# Altium schematic symbol library Transistor.SchLib: 5 symbols
Pins are listed as number, name and electrical type; pins without a type are passive.

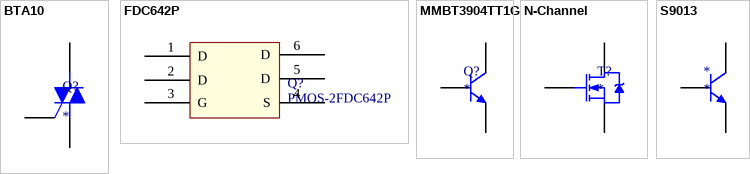
[diagram p0: symbols BTA10 to S9013]

## BTA10
designator Q?
footprint DPAK244P1540X238-3N (D2-PAK, 3-Pads, Body 7.77x8.36mm (max), IPC Medium Density)
pins: G, M1, M2

## FDC642P
designator Q?, comment PMOS-2FDC642P
P-Channel Power MOSFET; Note: Pin 4 not drawn and electrically connected to Pin 2.; Published: 8-Jun-2000; LatestRevisionDate: 17-Jul-2002; LatestRevisionNote: Re-released for DXP Platform.; DatasheetVersion: PD-9.390D; PackageVersion: Feb-1997; PackageReference: TO-220AB; Publisher: Altium Limited; PackageDescription: TO, Thru-Hole, Vertical, Heatsink Mounted; 3 In-Line Leads; Pitch 2.54 mm; ComponentLink1Description: Manufacturer Link; ComponentLink1URL: http://www.irf.com/
footprint SOT23-6N
pins: 1 D, 2 D, 3 G, 4 S, 5 D, 6 D

## MMBT3904TT1G
designator Q?
footprint SOT-416/SC-75
pins: 1 B, 2 E, 3 C

## N-Channel
designator T?
footprint SOT23
pins: D, G, S

## S9013
designator *
footprint SOT-23
pins: 1 B, 2 E, 3 C